# EAGLE library part AS-ITM-00353 (library tinycircuits)
IC BATT CHG LI-ION 1 CELL 6USP
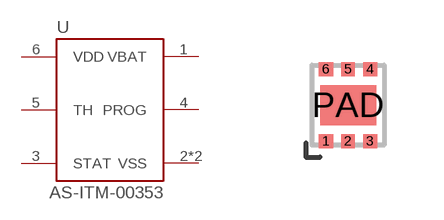
[diagram p138: symbol with the pads of USP-6EL; footprint USP-6EL]

Designator prefix U

## AS-ITM-00353 (PARTNO: AS-ITM-00353; VALUE: XC6803A3E14R)  [USP-6EL]
1  VBAT
2  VSS
3  STAT
4  PROG
5  TH
6  VDD
PAD  VSS

## Footprint USP-6EL (pad centres in mm)
smd 0.35 x 0.35: 1 -0.55,-0.9; 2 0,-0.9; 3 0.55,-0.9; 4 0.55,0.9; 5 0,0.9; 6 -0.55,0.9
smd 1.4 x 1: PAD 0,0